# Altium integrated library Xilinx XC17S00A.IntLib: 46 symbols (part 2 of 2)
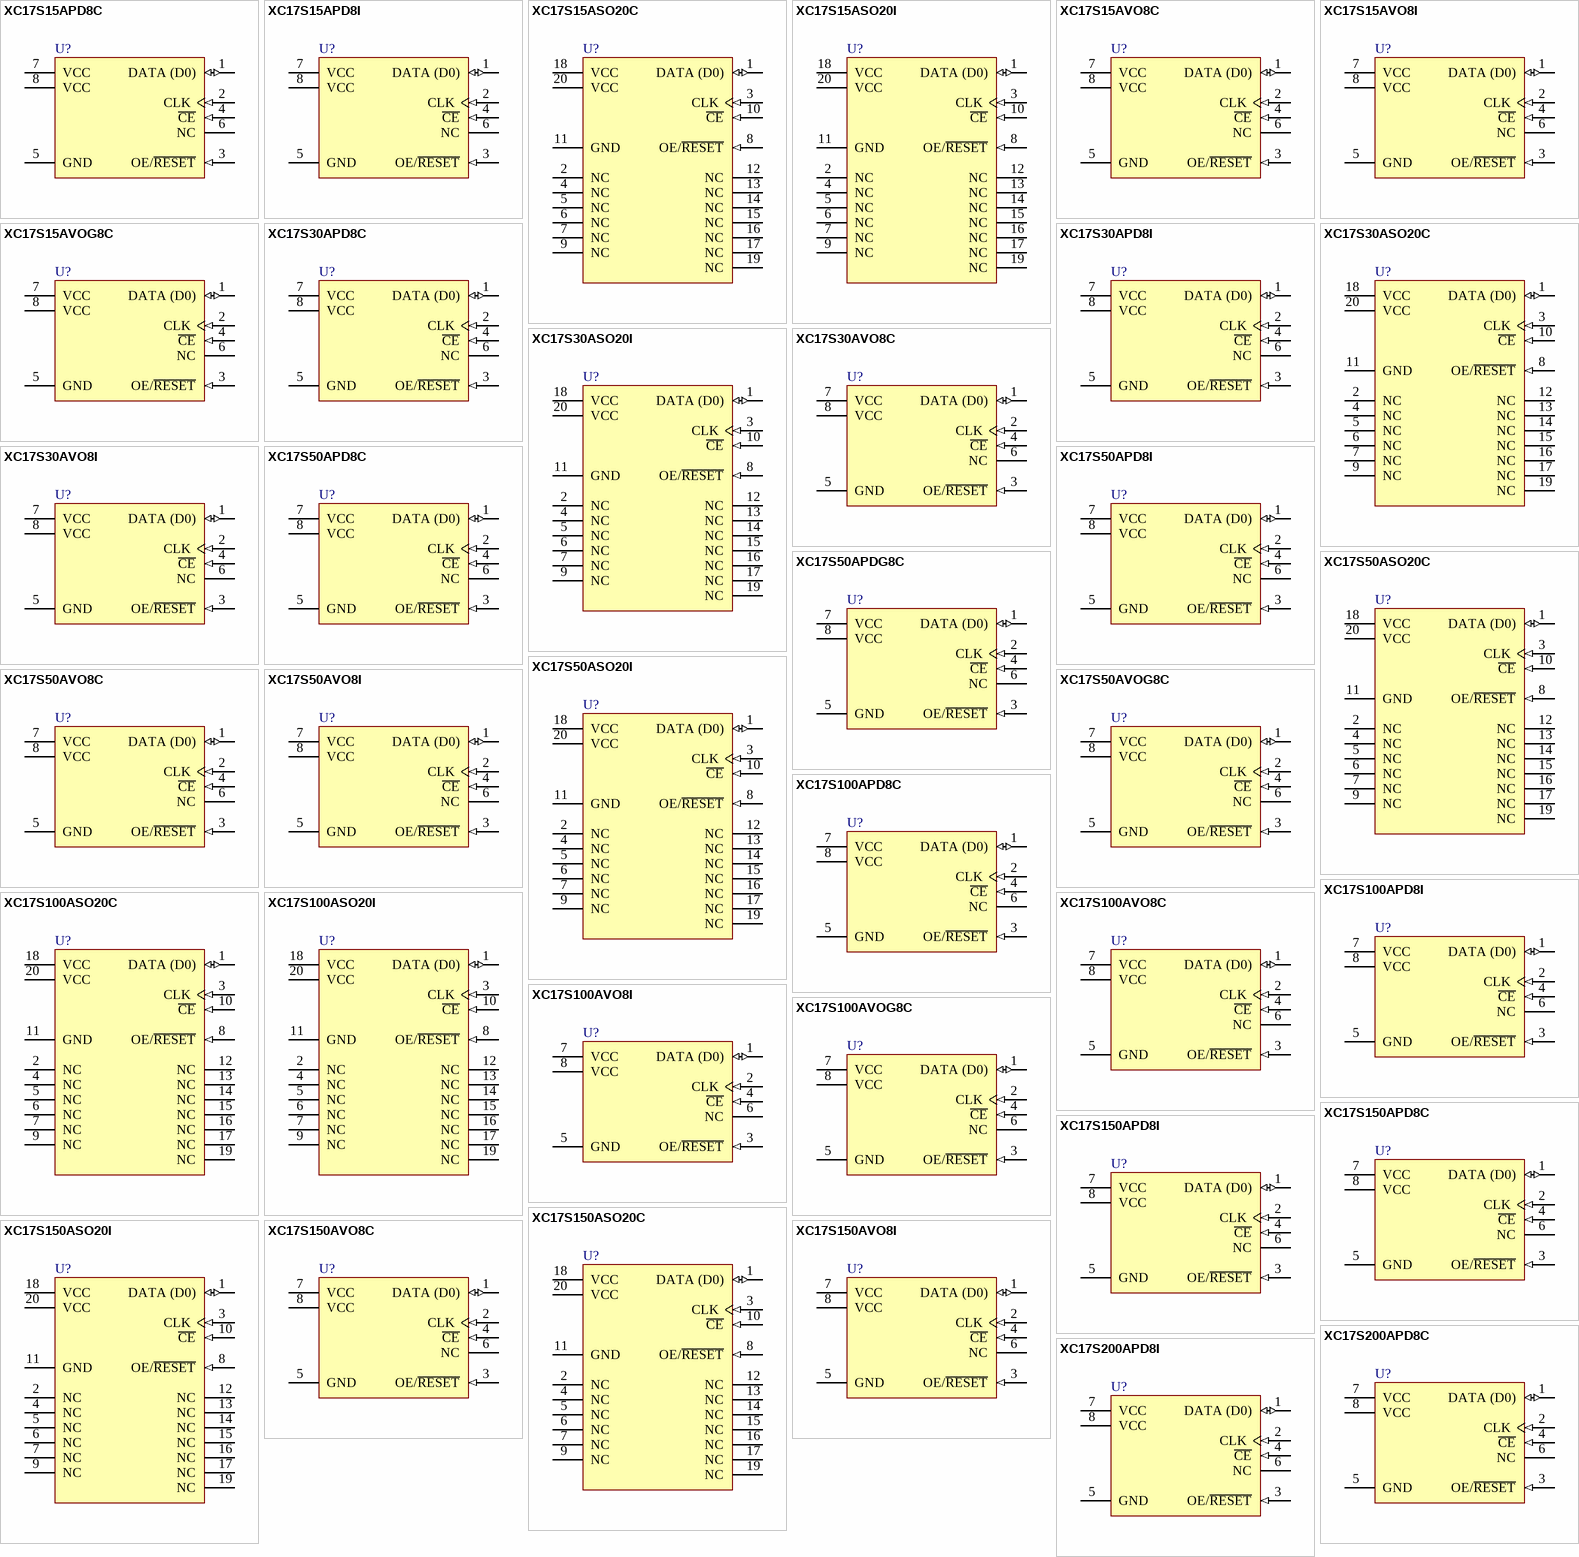
[diagram p2: symbols XC17S15APD8C to XC17S200APD8I]

## XC17S150AVO8I
designator U?
XC17S00A Series, One-Time Programmable Configuration 3.3V PROM, 8-Pin TSOP, XC2S150 Compatible, Industrial Grade; DatasheetVersion: ver1.10, Jun-2007; PackageVersion: ver1.1, Apr-2001; PackageReference: VO8; PackageDescription: 8-Pin Thin Small Outline Package (VO8); ComponentLink1Description: Manufacturer URL; ComponentLink1URL: http://www.xilinx.com/; ComponentLink2Description: XC17S00A Datasheet; ComponentLink2URL: http://www.xilinx.com/support/documentation/data_sheets/ds078.pdf; ComponentLink3Description: VO8 Package Drawing; ComponentLink3URL: http://www.xilinx.com/support/documentation/package_specs/vo8.pdf; ComponentLink4Description: Configuration PROM Documents; ComponentLink4URL: http://www.xilinx.com/support/documentation/configuration_proms.htm
footprint VO8_N (SOIC, 8-Leads, Body 4.9x3.9mm, Pitch 1.27mm, IPC Medium Density)
footprint VO8_L (SOIC, 8-Leads, Body 4.9x3.9mm, Pitch 1.27mm, IPC High Density)
footprint VO8_M (SOIC, 8-Leads, Body 4.9x3.9mm, Pitch 1.27mm, IPC Low Density)
pins: 1 DATA (D0) (io) "Data Output.", 2 CLK (in) "Clock input for internal address counter.", 3 OE/~{RESET} (in) "DATA Output Enable/Address Counter Reset", 4 ~{CE} (in) "Reset internal Address Counter, Disable DATA Output, Force device into Standby Mode.", 5 GND (power) "Ground.", 6 NC "No Connection.", 7 VCC (power) "Positive Supply.", 8 VCC (power) "Positive Supply."

## XC17S200APD8C
designator U?
XC17S00A Series, One-Time Programmable Configuration 3.3V PROM, 8-Pin PDIP, XC2S200/XC2S150E/XC2S200E Compatible, Commercial Grade; DatasheetVersion: ver1.10, Jun-2007; PackageVersion: rev1.1, Apr-2001; PackageReference: PD8; PackageDescription: 8-Pin Plastic DIP (PD8); Code_JEDEC: MS-001-BA; ComponentLink1Description: Manufacturer URL; ComponentLink1URL: http://www.xilinx.com/; ComponentLink2Description: XC17S00A Datasheet; ComponentLink2URL: http://www.xilinx.com/support/documentation/data_sheets/ds078.pdf; ComponentLink3Description: PD8 Package Drawing; ComponentLink3URL: http://www.xilinx.com/support/documentation/package_specs/pd08.pdf; ComponentLink4Description: Configuration PROM Documents; ComponentLink4URL: http://www.xilinx.com/support/documentation/configuration_proms.htm
footprint PD8 (DIP, 8-Leads, Row Spacing 7.62mm, Pitch 2.54mm, Body 9.36x6.5mm)
pins: 1 DATA (D0) (io) "Data Output.", 2 CLK (in) "Clock input for internal address counter.", 3 OE/~{RESET} (in) "DATA Output Enable/Address Counter Reset", 4 ~{CE} (in) "Reset internal Address Counter, Disable DATA Output, Force device into Standby Mode.", 5 GND (power) "Ground.", 6 NC "No Connection.", 7 VCC (power) "Positive Supply.", 8 VCC (power) "Positive Supply."

## XC17S200APD8I
designator U?
XC17S00A Series, One-Time Programmable Configuration 3.3V PROM, 8-Pin PDIP, XC2S200/XC2S150E/XC2S200E Compatible, Industrial Grade; DatasheetVersion: ver1.10, Jun-2007; PackageVersion: rev1.1, Apr-2001; PackageReference: PD8; PackageDescription: 8-Pin Plastic DIP (PD8); Code_JEDEC: MS-001-BA; ComponentLink1Description: Manufacturer URL; ComponentLink1URL: http://www.xilinx.com/; ComponentLink2Description: XC17S00A Datasheet; ComponentLink2URL: http://www.xilinx.com/support/documentation/data_sheets/ds078.pdf; ComponentLink3Description: PD8 Package Drawing; ComponentLink3URL: http://www.xilinx.com/support/documentation/package_specs/pd08.pdf; ComponentLink4Description: Configuration PROM Documents; ComponentLink4URL: http://www.xilinx.com/support/documentation/configuration_proms.htm
footprint PD8 (DIP, 8-Leads, Row Spacing 7.62mm, Pitch 2.54mm, Body 9.36x6.5mm)
pins: 1 DATA (D0) (io) "Data Output.", 2 CLK (in) "Clock input for internal address counter.", 3 OE/~{RESET} (in) "DATA Output Enable/Address Counter Reset", 4 ~{CE} (in) "Reset internal Address Counter, Disable DATA Output, Force device into Standby Mode.", 5 GND (power) "Ground.", 6 NC "No Connection.", 7 VCC (power) "Positive Supply.", 8 VCC (power) "Positive Supply."

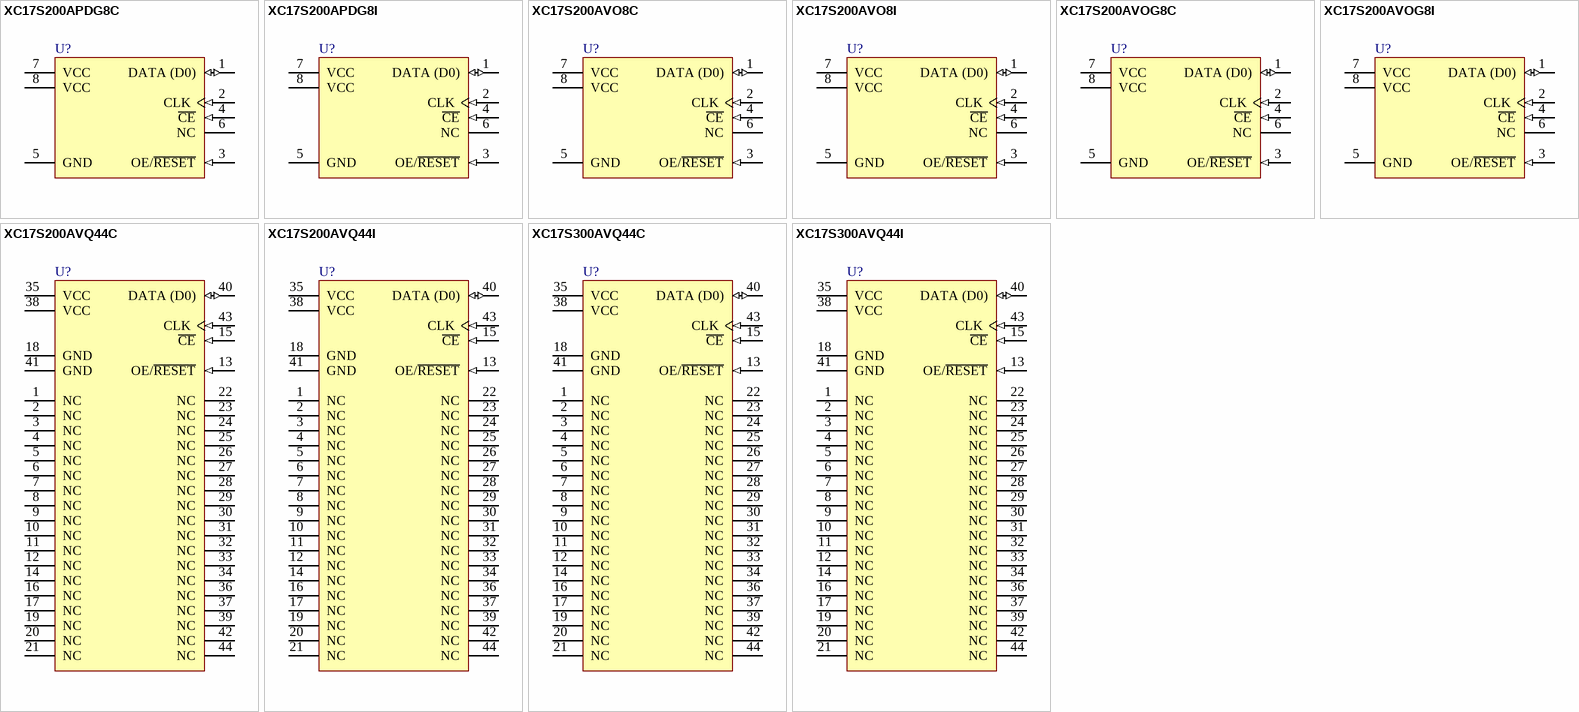
[diagram p1: symbols XC17S200APDG8C to XC17S300AVQ44I]

## XC17S200APDG8C
designator U?
XC17S00A Series, One-Time Programmable Configuration 3.3V PROM, 8-Pin PDIP, XC2S200/XC2S150E/XC2S200E Compatible, Commercial Grade, Pb-Free; DatasheetVersion: ver1.10, Jun-2007; PackageVersion: rev1.1, Apr-2001; PackageReference: PDG8; PackageDescription: 8-Pin Plastic DIP (PDG8), Pb-Free; Code_JEDEC: MS-001-BA; ComponentLink1Description: Manufacturer URL; ComponentLink1URL: http://www.xilinx.com/; ComponentLink2Description: XC17S00A Datasheet; ComponentLink2URL: http://www.xilinx.com/support/documentation/data_sheets/ds078.pdf; ComponentLink3Description: PDG8 Package Drawing; ComponentLink3URL: http://www.xilinx.com/support/documentation/package_specs/pd08.pdf; ComponentLink4Description: Configuration PROM Documents; ComponentLink4URL: http://www.xilinx.com/support/documentation/configuration_proms.htm
footprint PDG8 (DIP, 8-Leads, Row Spacing 7.62mm, Pitch 2.54mm, Body 9.36x6.5mm)
pins: 1 DATA (D0) (io) "Data Output.", 2 CLK (in) "Clock input for internal address counter.", 3 OE/~{RESET} (in) "DATA Output Enable/Address Counter Reset", 4 ~{CE} (in) "Reset internal Address Counter, Disable DATA Output, Force device into Standby Mode.", 5 GND (power) "Ground.", 6 NC "No Connection.", 7 VCC (power) "Positive Supply.", 8 VCC (power) "Positive Supply."

## XC17S200APDG8I
designator U?
XC17S00A Series, One-Time Programmable Configuration 3.3V PROM, 8-Pin PDIP, XC2S200/XC2S150E/XC2S200E Compatible, Industrial Grade, Pb-Free; DatasheetVersion: ver1.10, Jun-2007; PackageVersion: rev1.1, Apr-2001; PackageReference: PDG8; PackageDescription: 8-Pin Plastic DIP (PDG8), Pb-Free; Code_JEDEC: MS-001-BA; ComponentLink1Description: Manufacturer URL; ComponentLink1URL: http://www.xilinx.com/; ComponentLink2Description: XC17S00A Datasheet; ComponentLink2URL: http://www.xilinx.com/support/documentation/data_sheets/ds078.pdf; ComponentLink3Description: PDG8 Package Drawing; ComponentLink3URL: http://www.xilinx.com/support/documentation/package_specs/pd08.pdf; ComponentLink4Description: Configuration PROM Documents; ComponentLink4URL: http://www.xilinx.com/support/documentation/configuration_proms.htm
footprint PDG8 (DIP, 8-Leads, Row Spacing 7.62mm, Pitch 2.54mm, Body 9.36x6.5mm)
pins: 1 DATA (D0) (io) "Data Output.", 2 CLK (in) "Clock input for internal address counter.", 3 OE/~{RESET} (in) "DATA Output Enable/Address Counter Reset", 4 ~{CE} (in) "Reset internal Address Counter, Disable DATA Output, Force device into Standby Mode.", 5 GND (power) "Ground.", 6 NC "No Connection.", 7 VCC (power) "Positive Supply.", 8 VCC (power) "Positive Supply."

## XC17S200AVO8C
designator U?
XC17S00A Series, One-Time Programmable Configuration 3.3V PROM, 8-Pin TSOP, XC2S200/XC2S150E/XC2S200E Compatible, Commercial Grade; DatasheetVersion: ver1.10, Jun-2007; PackageVersion: ver1.1, Apr-2001; PackageReference: VO8; PackageDescription: 8-Pin Thin Small Outline Package (VO8); ComponentLink1Description: Manufacturer URL; ComponentLink1URL: http://www.xilinx.com/; ComponentLink2Description: XC17S00A Datasheet; ComponentLink2URL: http://www.xilinx.com/support/documentation/data_sheets/ds078.pdf; ComponentLink3Description: VO8 Package Drawing; ComponentLink3URL: http://www.xilinx.com/support/documentation/package_specs/vo8.pdf; ComponentLink4Description: Configuration PROM Documents; ComponentLink4URL: http://www.xilinx.com/support/documentation/configuration_proms.htm
footprint VO8_N (SOIC, 8-Leads, Body 4.9x3.9mm, Pitch 1.27mm, IPC Medium Density)
footprint VO8_L (SOIC, 8-Leads, Body 4.9x3.9mm, Pitch 1.27mm, IPC High Density)
footprint VO8_M (SOIC, 8-Leads, Body 4.9x3.9mm, Pitch 1.27mm, IPC Low Density)
pins: 1 DATA (D0) (io) "Data Output.", 2 CLK (in) "Clock input for internal address counter.", 3 OE/~{RESET} (in) "DATA Output Enable/Address Counter Reset", 4 ~{CE} (in) "Reset internal Address Counter, Disable DATA Output, Force device into Standby Mode.", 5 GND (power) "Ground.", 6 NC "No Connection.", 7 VCC (power) "Positive Supply.", 8 VCC (power) "Positive Supply."

## XC17S200AVO8I
designator U?
XC17S00A Series, One-Time Programmable Configuration 3.3V PROM, 8-Pin TSOP, XC2S200/XC2S150E/XC2S200E Compatible, Industrial Grade; DatasheetVersion: ver1.10, Jun-2007; PackageVersion: ver1.1, Apr-2001; PackageReference: VO8; PackageDescription: 8-Pin Thin Small Outline Package (VO8); ComponentLink1Description: Manufacturer URL; ComponentLink1URL: http://www.xilinx.com/; ComponentLink2Description: XC17S00A Datasheet; ComponentLink2URL: http://www.xilinx.com/support/documentation/data_sheets/ds078.pdf; ComponentLink3Description: VO8 Package Drawing; ComponentLink3URL: http://www.xilinx.com/support/documentation/package_specs/vo8.pdf; ComponentLink4Description: Configuration PROM Documents; ComponentLink4URL: http://www.xilinx.com/support/documentation/configuration_proms.htm
footprint VO8_N (SOIC, 8-Leads, Body 4.9x3.9mm, Pitch 1.27mm, IPC Medium Density)
footprint VO8_L (SOIC, 8-Leads, Body 4.9x3.9mm, Pitch 1.27mm, IPC High Density)
footprint VO8_M (SOIC, 8-Leads, Body 4.9x3.9mm, Pitch 1.27mm, IPC Low Density)
pins: 1 DATA (D0) (io) "Data Output.", 2 CLK (in) "Clock input for internal address counter.", 3 OE/~{RESET} (in) "DATA Output Enable/Address Counter Reset", 4 ~{CE} (in) "Reset internal Address Counter, Disable DATA Output, Force device into Standby Mode.", 5 GND (power) "Ground.", 6 NC "No Connection.", 7 VCC (power) "Positive Supply.", 8 VCC (power) "Positive Supply."

## XC17S200AVOG8C
designator U?
XC17S00A Series, One-Time Programmable Configuration 3.3V PROM, 8-Pin TSOP, XC2S200/XC2S150E/XC2S200E Compatible, Commercial Grade, Pb-Free; DatasheetVersion: ver1.10, Jun-2007; PackageVersion: ver1.1, Apr-2001; PackageReference: VOG8; PackageDescription: 8-Pin Thin Small Outline Package (VOG8) - Pb-Free; ComponentLink1Description: Manufacturer URL; ComponentLink1URL: http://www.xilinx.com/; ComponentLink2Description: XC17S00A Datasheet; ComponentLink2URL: http://www.xilinx.com/support/documentation/data_sheets/ds078.pdf; ComponentLink3Description: VOG8 Package Drawing; ComponentLink3URL: http://www.xilinx.com/support/documentation/package_specs/vo8.pdf; ComponentLink4Description: Configuration PROM Documents; ComponentLink4URL: http://www.xilinx.com/support/documentation/configuration_proms.htm
footprint VOG8_N (SOIC, 8-Leads, Body 4.9x3.9mm, Pitch 1.27mm, IPC Medium Density)
footprint VOG8_L (SOIC, 8-Leads, Body 4.9x3.9mm, Pitch 1.27mm, IPC High Density)
footprint VOG8_M (SOIC, 8-Leads, Body 4.9x3.9mm, Pitch 1.27mm, IPC Low Density)
pins: 1 DATA (D0) (io) "Data Output.", 2 CLK (in) "Clock input for internal address counter.", 3 OE/~{RESET} (in) "DATA Output Enable/Address Counter Reset", 4 ~{CE} (in) "Reset internal Address Counter, Disable DATA Output, Force device into Standby Mode.", 5 GND (power) "Ground.", 6 NC "No Connection.", 7 VCC (power) "Positive Supply.", 8 VCC (power) "Positive Supply."

## XC17S200AVOG8I
designator U?
XC17S00A Series, One-Time Programmable Configuration 3.3V PROM, 8-Pin TSOP, XC2S200/XC2S150E/XC2S200E Compatible, Industrial Grade, Pb-Free; DatasheetVersion: ver1.10, Jun-2007; PackageVersion: ver1.1, Apr-2001; PackageReference: VOG8; PackageDescription: 8-Pin Thin Small Outline Package (VOG8) - Pb-Free; ComponentLink1Description: Manufacturer URL; ComponentLink1URL: http://www.xilinx.com/; ComponentLink2Description: XC17S00A Datasheet; ComponentLink2URL: http://www.xilinx.com/support/documentation/data_sheets/ds078.pdf; ComponentLink3Description: VOG8 Package Drawing; ComponentLink3URL: http://www.xilinx.com/support/documentation/package_specs/vo8.pdf; ComponentLink4Description: Configuration PROM Documents; ComponentLink4URL: http://www.xilinx.com/support/documentation/configuration_proms.htm
footprint VOG8_N (SOIC, 8-Leads, Body 4.9x3.9mm, Pitch 1.27mm, IPC Medium Density)
footprint VOG8_L (SOIC, 8-Leads, Body 4.9x3.9mm, Pitch 1.27mm, IPC High Density)
footprint VOG8_M (SOIC, 8-Leads, Body 4.9x3.9mm, Pitch 1.27mm, IPC Low Density)
pins: 1 DATA (D0) (io) "Data Output.", 2 CLK (in) "Clock input for internal address counter.", 3 OE/~{RESET} (in) "DATA Output Enable/Address Counter Reset", 4 ~{CE} (in) "Reset internal Address Counter, Disable DATA Output, Force device into Standby Mode.", 5 GND (power) "Ground.", 6 NC "No Connection.", 7 VCC (power) "Positive Supply.", 8 VCC (power) "Positive Supply."

## XC17S200AVQ44C
designator U?
XC17S00A Series, One-Time Programmable Configuration 3.3V PROM, 44-Pin VQFP, XC2S200/XC2S150E/XC2S200E Compatible, Commercial Grade; DatasheetVersion: ver1.10, Jun-2007; PackageVersion: ver1.2, Jun-2004; PackageReference: VQ44; PackageDescription: 44-Pin Very Thin Quad Flat Pack (VQ44); Code_JEDEC: MS-026-ACB; ComponentLink1Description: Manufacturer URL; ComponentLink1URL: http://www.xilinx.com/; ComponentLink2Description: XC17S00A Datasheet; ComponentLink2URL: http://www.xilinx.com/support/documentation/data_sheets/ds078.pdf; ComponentLink3Description: VQ44 Package Drawing; ComponentLink3URL: http://www.xilinx.com/support/documentation/package_specs/vq44.pdf; ComponentLink4Description: Configuration PROM Documents; ComponentLink4URL: http://www.xilinx.com/support/documentation/configuration_proms.htm
footprint VQ44_N (Thin QFP, 44-Leads, Body 10x10mm, Pitch 0.8mm, IPC Medium Density)
footprint VQ44_L (Thin QFP, 44-Leads, Body 10x10mm, Pitch 0.8mm, IPC High Density)
footprint VQ44_M (Thin QFP, 44-Leads, Body 10x10mm, Pitch 0.8mm, IPC Low Density)
pins: 1 NC "No Connection.", 2 NC "No Connection.", 3 NC "No Connection.", 4 NC "No Connection.", 5 NC "No Connection.", 6 NC "No Connection.", 7 NC "No Connection.", 8 NC "No Connection.", 9 NC "No Connection.", 10 NC "No Connection.", 11 NC "No Connection.", 12 NC "No Connection.", 13 OE/~{RESET} (in) "DATA Output Enable/Address Counter Reset", 14 NC "No Connection.", 15 ~{CE} (in) "Reset internal Address Counter, Disable DATA Output, Force device into Standby Mode.", 16 NC "No Connection.", 17 NC "No Connection.", 18 GND (power) "Ground.", 19 NC "No Connection.", 20 NC "No Connection.", 21 NC "No Connection.", 22 NC "No Connection.", 23 NC "No Connection.", 24 NC "No Connection.", 25 NC "No Connection.", 26 NC "No Connection.", 27 NC "No Connection.", 28 NC "No Connection.", 29 NC "No Connection.", 30 NC "No Connection.", 31 NC "No Connection.", 32 NC "No Connection.", 33 NC "No Connection.", 34 NC "No Connection.", 35 VCC (power) "Positive Supply.", 36 NC "No Connection.", 37 NC "No Connection.", 38 VCC (power) "Positive Supply.", 39 NC "No Connection.", 40 DATA (D0) (io) "Data Output.", 41 GND (power) "Ground.", 42 NC "No Connection.", 43 CLK (in) "Clock input for internal address counter.", 44 NC "No Connection."

## XC17S200AVQ44I
designator U?
XC17S00A Series, One-Time Programmable Configuration 3.3V PROM, 44-Pin VQFP, XC2S200/XC2S150E/XC2S200E Compatible, Industrial Grade; DatasheetVersion: ver1.10, Jun-2007; PackageVersion: ver1.2, Jun-2004; PackageReference: VQ44; PackageDescription: 44-Pin Very Thin Quad Flat Pack (VQ44); Code_JEDEC: MS-026-ACB; ComponentLink1Description: Manufacturer URL; ComponentLink1URL: http://www.xilinx.com/; ComponentLink2Description: XC17S00A Datasheet; ComponentLink2URL: http://www.xilinx.com/support/documentation/data_sheets/ds078.pdf; ComponentLink3Description: VQ44 Package Drawing; ComponentLink3URL: http://www.xilinx.com/support/documentation/package_specs/vq44.pdf; ComponentLink4Description: Configuration PROM Documents; ComponentLink4URL: http://www.xilinx.com/support/documentation/configuration_proms.htm
footprint VQ44_N (Thin QFP, 44-Leads, Body 10x10mm, Pitch 0.8mm, IPC Medium Density)
footprint VQ44_L (Thin QFP, 44-Leads, Body 10x10mm, Pitch 0.8mm, IPC High Density)
footprint VQ44_M (Thin QFP, 44-Leads, Body 10x10mm, Pitch 0.8mm, IPC Low Density)
pins: 1 NC "No Connection.", 2 NC "No Connection.", 3 NC "No Connection.", 4 NC "No Connection.", 5 NC "No Connection.", 6 NC "No Connection.", 7 NC "No Connection.", 8 NC "No Connection.", 9 NC "No Connection.", 10 NC "No Connection.", 11 NC "No Connection.", 12 NC "No Connection.", 13 OE/~{RESET} (in) "DATA Output Enable/Address Counter Reset", 14 NC "No Connection.", 15 ~{CE} (in) "Reset internal Address Counter, Disable DATA Output, Force device into Standby Mode.", 16 NC "No Connection.", 17 NC "No Connection.", 18 GND (power) "Ground.", 19 NC "No Connection.", 20 NC "No Connection.", 21 NC "No Connection.", 22 NC "No Connection.", 23 NC "No Connection.", 24 NC "No Connection.", 25 NC "No Connection.", 26 NC "No Connection.", 27 NC "No Connection.", 28 NC "No Connection.", 29 NC "No Connection.", 30 NC "No Connection.", 31 NC "No Connection.", 32 NC "No Connection.", 33 NC "No Connection.", 34 NC "No Connection.", 35 VCC (power) "Positive Supply.", 36 NC "No Connection.", 37 NC "No Connection.", 38 VCC (power) "Positive Supply.", 39 NC "No Connection.", 40 DATA (D0) (io) "Data Output.", 41 GND (power) "Ground.", 42 NC "No Connection.", 43 CLK (in) "Clock input for internal address counter.", 44 NC "No Connection."

## XC17S300AVQ44C
designator U?
XC17S00A Series, One-Time Programmable Configuration 3.3V PROM, 44-Pin VQFP, XC2S300E Compatible, Commercial Grade; DatasheetVersion: ver1.10, Jun-2007; PackageVersion: ver1.2, Jun-2004; PackageReference: VQ44; PackageDescription: 44-Pin Very Thin Quad Flat Pack (VQ44); Code_JEDEC: MS-026-ACB; ComponentLink1Description: Manufacturer URL; ComponentLink1URL: http://www.xilinx.com/; ComponentLink2Description: XC17S00A Datasheet; ComponentLink2URL: http://www.xilinx.com/support/documentation/data_sheets/ds078.pdf; ComponentLink3Description: VQ44 Package Drawing; ComponentLink3URL: http://www.xilinx.com/support/documentation/package_specs/vq44.pdf; ComponentLink4Description: Configuration PROM Documents; ComponentLink4URL: http://www.xilinx.com/support/documentation/configuration_proms.htm
footprint VQ44_N (Thin QFP, 44-Leads, Body 10x10mm, Pitch 0.8mm, IPC Medium Density)
footprint VQ44_L (Thin QFP, 44-Leads, Body 10x10mm, Pitch 0.8mm, IPC High Density)
footprint VQ44_M (Thin QFP, 44-Leads, Body 10x10mm, Pitch 0.8mm, IPC Low Density)
pins: 1 NC "No Connection.", 2 NC "No Connection.", 3 NC "No Connection.", 4 NC "No Connection.", 5 NC "No Connection.", 6 NC "No Connection.", 7 NC "No Connection.", 8 NC "No Connection.", 9 NC "No Connection.", 10 NC "No Connection.", 11 NC "No Connection.", 12 NC "No Connection.", 13 OE/~{RESET} (in) "DATA Output Enable/Address Counter Reset", 14 NC "No Connection.", 15 ~{CE} (in) "Reset internal Address Counter, Disable DATA Output, Force device into Standby Mode.", 16 NC "No Connection.", 17 NC "No Connection.", 18 GND (power) "Ground.", 19 NC "No Connection.", 20 NC "No Connection.", 21 NC "No Connection.", 22 NC "No Connection.", 23 NC "No Connection.", 24 NC "No Connection.", 25 NC "No Connection.", 26 NC "No Connection.", 27 NC "No Connection.", 28 NC "No Connection.", 29 NC "No Connection.", 30 NC "No Connection.", 31 NC "No Connection.", 32 NC "No Connection.", 33 NC "No Connection.", 34 NC "No Connection.", 35 VCC (power) "Positive Supply.", 36 NC "No Connection.", 37 NC "No Connection.", 38 VCC (power) "Positive Supply.", 39 NC "No Connection.", 40 DATA (D0) (io) "Data Output.", 41 GND (power) "Ground.", 42 NC "No Connection.", 43 CLK (in) "Clock input for internal address counter.", 44 NC "No Connection."

## XC17S300AVQ44I
designator U?
XC17S00A Series, One-Time Programmable Configuration 3.3V PROM, 44-Pin VQFP, XC2S300E Compatible, Industrial Grade; DatasheetVersion: ver1.10, Jun-2007; PackageVersion: ver1.2, Jun-2004; PackageReference: VQ44; PackageDescription: 44-Pin Very Thin Quad Flat Pack (VQ44); Code_JEDEC: MS-026-ACB; ComponentLink1Description: Manufacturer URL; ComponentLink1URL: http://www.xilinx.com/; ComponentLink2Description: XC17S00A Datasheet; ComponentLink2URL: http://www.xilinx.com/support/documentation/data_sheets/ds078.pdf; ComponentLink3Description: VQ44 Package Drawing; ComponentLink3URL: http://www.xilinx.com/support/documentation/package_specs/vq44.pdf; ComponentLink4Description: Configuration PROM Documents; ComponentLink4URL: http://www.xilinx.com/support/documentation/configuration_proms.htm
footprint VQ44_N (Thin QFP, 44-Leads, Body 10x10mm, Pitch 0.8mm, IPC Medium Density)
footprint VQ44_L (Thin QFP, 44-Leads, Body 10x10mm, Pitch 0.8mm, IPC High Density)
footprint VQ44_M (Thin QFP, 44-Leads, Body 10x10mm, Pitch 0.8mm, IPC Low Density)
pins: 1 NC "No Connection.", 2 NC "No Connection.", 3 NC "No Connection.", 4 NC "No Connection.", 5 NC "No Connection.", 6 NC "No Connection.", 7 NC "No Connection.", 8 NC "No Connection.", 9 NC "No Connection.", 10 NC "No Connection.", 11 NC "No Connection.", 12 NC "No Connection.", 13 OE/~{RESET} (in) "DATA Output Enable/Address Counter Reset", 14 NC "No Connection.", 15 ~{CE} (in) "Reset internal Address Counter, Disable DATA Output, Force device into Standby Mode.", 16 NC "No Connection.", 17 NC "No Connection.", 18 GND (power) "Ground.", 19 NC "No Connection.", 20 NC "No Connection.", 21 NC "No Connection.", 22 NC "No Connection.", 23 NC "No Connection.", 24 NC "No Connection.", 25 NC "No Connection.", 26 NC "No Connection.", 27 NC "No Connection.", 28 NC "No Connection.", 29 NC "No Connection.", 30 NC "No Connection.", 31 NC "No Connection.", 32 NC "No Connection.", 33 NC "No Connection.", 34 NC "No Connection.", 35 VCC (power) "Positive Supply.", 36 NC "No Connection.", 37 NC "No Connection.", 38 VCC (power) "Positive Supply.", 39 NC "No Connection.", 40 DATA (D0) (io) "Data Output.", 41 GND (power) "Ground.", 42 NC "No Connection.", 43 CLK (in) "Clock input for internal address counter.", 44 NC "No Connection."